# Altium schematic symbol library main 0603.SchLib: 72 symbols (part 1 of 2)
Pins are listed as number, name and electrical type; pins without a type are passive.

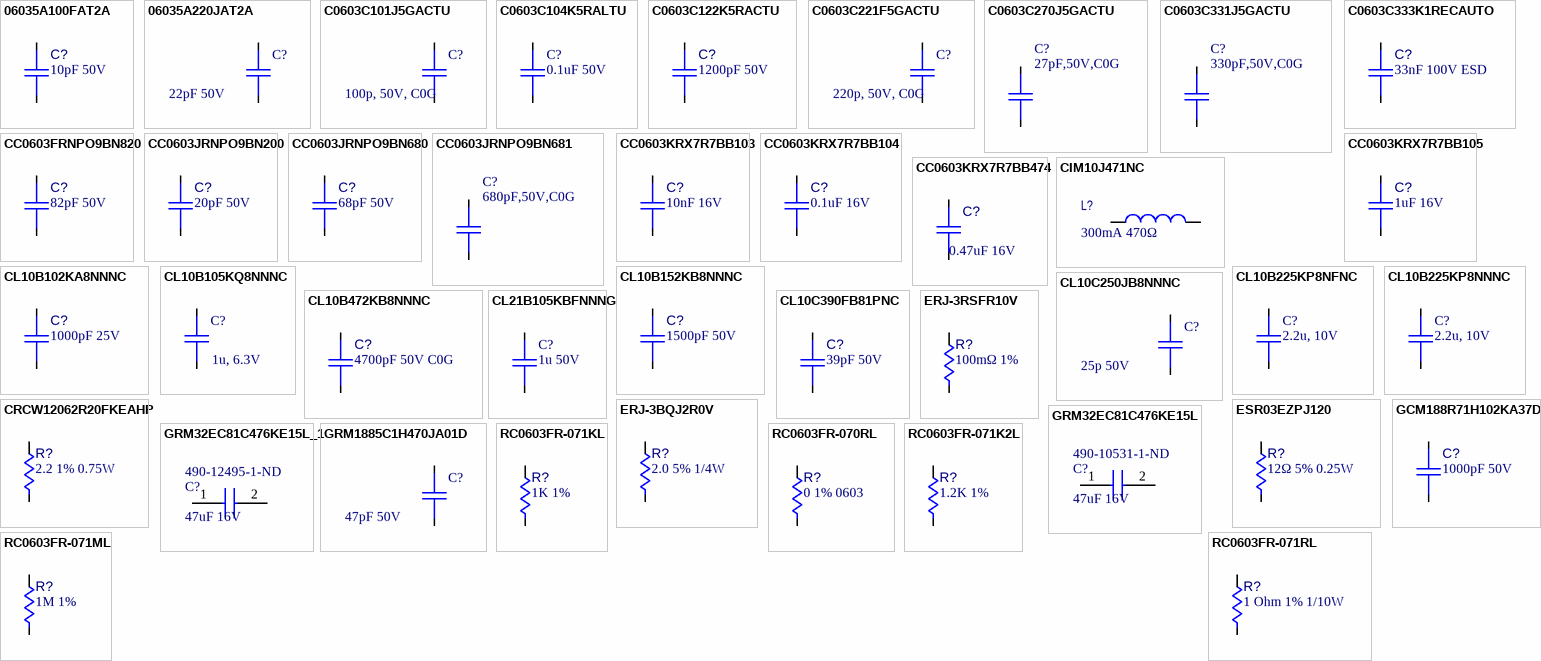
[diagram p0: symbols 06035A100FAT2A to RC0603FR-071RL]

## 06035A100FAT2A
designator C?, comment 10pF 50V
CAP CER 10PF 50V C0G/NP0 0603; Manufacturer: AVX; Manufacturer Part Number: 06035A100FAT2A; Tolerance: 1%; Temperature Coefficient: C0G; Supplier 1: Digi-Key; Category: Ceramic Capacitors; Stock 1: 366,260; Case/Package: 0603; Min Operating Temperature: -55°C; Max Operating Temperature: 125°C; Capacitance: 10pF; Voltage Rating (DC): 50V; Voltage Rating: 50V; Supplier Part Number 1: 478-10285-1-ND
footprint CAPC1608X09N (Chip Capacitor, 2-Leads, Body 1.60x0.80mm, IPC Medium Density)
pins: 1, 2

## 06035A220JAT2A
designator C?, comment 22pF 50V
CAP CER 22PF 50V C0G/NP0 0603; Manufacturer: AVX; Manufacturer Part Number: 06035A220JAT2A; Tolerance: 5%; Temperature Coefficient: C0G; Category: Ceramic Capacitors; Stock 1: 802526; Case/Package: 0603; Min Operating Temperature: -55°C; Max Operating Temperature: 125°C; Capacitance: 22pF; Voltage Rating: 50V; Load: *; Supplier 1: Digi-Key; Supplier Part Number 1: 478-1167-1-ND
footprint CAPC1608X09N (Chip Capacitor, 2-Leads, Body 1.60x0.80mm, IPC Medium Density)
pins: 1, 2

## C0603C101J5GACTU
designator C?, comment 100p, 50V, C0G
CAP CER 100PF 50V C0G/NP0 0603; Manufacturer: KEMET; Manufacturer Part Number: C0603C101J5GACTU; Dielectric Material: Ceramic; Tolerance: 5%; Case/Package: 0603; Min Operating Temperature: -55°C; Max Operating Temperature: 125°C; Capacitance: 100pF; Voltage Rating (DC): 50V; Temperature Coefficient: C0G; Voltage Rating: 50V; Height: 0.8mm; Lead Pitch: 0.7mm; ComponentLink1URL: https://datasheet.ciiva.com/5414/kem-c1003-c0g-smd-5414749.pdf; ComponentLink1Description: https://datasheet.ciiva.com/5414/kem-c1003-c0g-smd-5414749.pdf; Stock 1: 1,196,289; Supplier 1: Digi-Key; Supplier Part Number 1: 399-1061-1-ND
footprint CAPC1608X09N (Chip Capacitor, 2-Leads, Body 1.60x0.80mm, IPC Medium Density)
pins: 1, 2

## C0603C104K5RALTU
designator C?, comment 0.1uF 50V
CAP CER 0.1UF 50V X7R 0603; Manufacturer: KEMET; Manufacturer Part Number: C0603C104K5RALTU; Tolerance: 10%; Dielectric Material: Ceramic; Capacitance: 100nF; Dissipation Factor: 2.5%; Supplier 1: Digi-Key; Stock 1: 0; Pricing 1: 1=0.79, 10=0.584, 100=0.4002, 500=0.31682, 1000=0.2668 (USD); ComponentLink1URL: https://datasheet.ciiva.com/26847/getdatasheetpartid-103253-26847543.pdf; ComponentLink1Description: https://datasheet.ciiva.com/26847/getdatasheetpartid-103253-26847543.pdf; Supplier Part Number 1: 399-6353-6-ND; Case/Package: 0603; Min Operating Temperature: -55°C; Max Operating Temperature: 125°C; Temperature Coefficient: X7R; Voltage Rating: 50V; Height: 0.8mm
footprint CAPC1608X09N (Chip Capacitor, 2-Leads, Body 1.60x0.80mm, IPC Medium Density)
pins: 1, 2

## C0603C122K5RACTU
designator C?, comment 1200pF 50V
CAP CER 1200PF 50V X7R 0603; Manufacturer: KEMET; Manufacturer Part Number: C0603C122K5RACTU; Tolerance: 10%; Category: Ceramic Capacitors; Stock 1: 100,798; Pricing 1: 1=0.10000, 10=0.05000, 100=0.02240, 500=0.01602, 1000=0.01258 (USD); Case/Package: 0603; Min Operating Temperature: -55°C; Max Operating Temperature: 125°C; Temperature Coefficient: X7R; Capacitance: 1200pF; Voltage Rating: 50V; Height: 0.8mm; ComponentLink1URL: https://datasheet.ciiva.com/25741/cl10b102ka8nnnc-25741936.pdf?src-supplier=Digi-Key; ComponentLink1Description: https://datasheet.ciiva.com/25741/cl10b102ka8nnnc-25741936.pdf?src-supplier=Digi-Key; Supplier 1: Digi-Key; Supplier Part Number 1: 399-7851-1-ND
footprint CAPC1608X09N (Chip Capacitor, 2-Leads, Body 1.60x0.80mm, IPC Medium Density)
pins: 1, 2

## C0603C221F5GACTU
designator C?, comment 220p, 50V, C0G
CAP CER 220PF 50V C0G/NP0 0603; Manufacturer: KEMET; Manufacturer Part Number: C0603C221F5GACTU; Dielectric Material: Ceramic; Tolerance: 1%; Supplier 1: Digi-Key; Stock 1: 40000; Pricing 1: 1=0.3, 10=0.207, 100=0.1173, 500=0.0828, 1000=0.07245 (USD); Case/Package: 0603; Min Operating Temperature: -55°C; Max Operating Temperature: 125°C; Capacitance: 220pF; Temperature Coefficient: C0G; Voltage Rating: 50V; Height: 0.8mm; Lead Pitch: 0.7mm; ComponentLink1URL: https://datasheet.ciiva.com/5414/kem-c1003-c0g-smd-5414749.pdf; ComponentLink1Description: https://datasheet.ciiva.com/5414/kem-c1003-c0g-smd-5414749.pdf; Supplier Part Number 1: 399-7876-1-ND
footprint CAPC1608X09N (Chip Capacitor, 2-Leads, Body 1.60x0.80mm, IPC Medium Density)
pins: 1, 2

## C0603C270J5GACTU
designator C?, comment 27pF,50V,C0G
CAP CER 27PF 50V C0G/NP0 0603; Manufacturer: KEMET; Manufacturer Part Number: C0603C270J5GACTU; Tolerance: ±5%; Temperature Coefficient: C0G, NP0; Category: Capacitors; Stock 1: 287639; Pricing 1: 1=0.1, 10=0.052, 100=0.023, 500=0.0164, 1000=0.01289 (USD); Operating Temperature: -55°C ~ 125°C; Features: Low ESL; Applications: General Purpose; Mounting Type: Surface Mount, MLCC; ComponentLink1URL: https://search.kemet.com/component-edge/download/datasheet/C0603C331J5GACTU.pdf; ComponentLink1Description: https://search.kemet.com/component-edge/download/datasheet/C0603C331J5GACTU.pdf; Supplier 1: Digi-Key; Supplier Part Number 1: 399-1054-1-ND; Capactiance: 27pF
footprint CAPC1608X09N (Chip Capacitor, 2-Leads, Body 1.60x0.80mm, IPC Medium Density)
pins: 1, 2

## C0603C331J5GACTU
designator C?, comment 330pF,50V,C0G
CAP CER 330PF 50V C0G/NP0 0603; Manufacturer: KEMET; Manufacturer Part Number: C0603C331J5GACTU; Tolerance: ±5%; Temperature Coefficient: C0G, NP0; Supplier 1: Digi-Key; Category: Capacitors; Stock 1: 121808; Pricing 1: 1=0.1, 10=0.052, 100=0.023, 500=0.0164, 1000=0.01289 (USD); Voltage Rating: 50V; Operating Temperature: -55°C ~ 125°C; Features: Low ESL; Applications: General Purpose; Mounting Type: Surface Mount, MLCC; ComponentLink1URL: https://search.kemet.com/component-edge/download/datasheet/C0603C331J5GACTU.pdf; ComponentLink1Description: https://search.kemet.com/component-edge/download/datasheet/C0603C331J5GACTU.pdf; Supplier Part Number 1: 399-1068-1-ND; Capacitance: 330pF
footprint CAPC1608X09N (Chip Capacitor, 2-Leads, Body 1.60x0.80mm, IPC Medium Density)
pins: 1, 2

## C0603C333K1RECAUTO
designator C?, comment 33nF 100V ESD
CAP CER 0.033UF 100V X7R 0603; Manufacturer: KEMET; Manufacturer Part Number: C0603C333K1RECAUTO; Tolerance: 10%; Stock 1: 6410; Pricing 1: 1=0.25, 10=0.169, 100=0.0857, 500=0.0586, 1000=0.05184 (USD); Case/Package: 0603; Min Operating Temperature: -55°C; Max Operating Temperature: 125°C; Capacitance: 33nF; Voltage Rating: 100V; ComponentLink1URL: https://api.kemet.com/component-edge/download/datasheet/C0603C333K1RECAUTO.pdf?src-supplier=Digi-Key; ComponentLink1Description: https://api.kemet.com/component-edge/download/datasheet/C0603C333K1RECAUTO.pdf?src-supplier=Digi-Key; Supplier 1: Digi-Key; Supplier Part Number 1: 399-14762-1-ND; Temperature Coefficient: X7R
footprint CAPC1608X09N (Chip Capacitor, 2-Leads, Body 1.60x0.80mm, IPC Medium Density)
pins: 1, 2

## CC0603FRNPO9BN820
designator C?, comment 82pF 50V
CAP CER 82PF 50V C0G/NPO 0603; Manufacturer: Yageo; Manufacturer Part Number: CC0603FRNPO9BN820; Tolerance: 1%; Temperature Coefficient: C0G; Category: Ceramic Capacitors; Stock 1: 35,490; Case/Package: 0603; Min Operating Temperature: -55°C; Max Operating Temperature: 125°C; Capacitance: 82pF; Voltage Rating: 50V; Supplier 1: Digi-Key; Supplier Part Number 1: 311-3906-1-ND; Load: *
footprint CAPC1608X09N (Chip Capacitor, 2-Leads, Body 1.60x0.80mm, IPC Medium Density)
pins: 1, 2

## CC0603JRNPO9BN200
designator C?, comment 20pF 50V
CAP CER 20PF 50V C0G/NPO 0603; Manufacturer: Yageo; Manufacturer Part Number: CC0603JRNPO9BN200; Tolerance: 5%; Temperature Coefficient: C0G; Supplier 1: Digi-Key; Category: Ceramic Capacitors; Stock 1: 67638; Pricing 1: 1=0.10000, 10=0.05100, 100=0.02260, 500=0.01614, 1000=0.01267 (USD); Case/Package: 0603; Min Operating Temperature: -55°C; Max Operating Temperature: 125°C; Capacitance: 20pF; Voltage Rating (DC): 50V; Voltage Rating: 50V; ComponentLink1URL: https://datasheet.ciiva.com/7978/1132289-7978134.pdf?src-supplier=Element14; ComponentLink1Description: https://datasheet.ciiva.com/7978/1132289-7978134.pdf?src-supplier=Element14; Supplier Part Number 1: 311-1424-1-ND
footprint CAPC1608X09N (Chip Capacitor, 2-Leads, Body 1.60x0.80mm, IPC Medium Density)
pins: 1, 2

## CC0603JRNPO9BN680
designator C?, comment 68pF 50V
CAP CER 68PF 50V C0G/NPO 0603; Manufacturer: Yageo; Manufacturer Part Number: CC0603JRNPO9BN680; Tolerance: +/-5%; Temperature Coefficient: C0G; Category: Ceramic Capacitors; Stock 1: 219,557; Case/Package: 0603; Min Operating Temperature: -55°C; Max Operating Temperature: 125°C; Capacitance: 68pF; Voltage Rating: 50V; Load: *; Supplier 1: Digi-Key; Supplier Part Number 1: 311-1067-1-ND
footprint CAPC1608X09N (Chip Capacitor, 2-Leads, Body 1.60x0.80mm, IPC Medium Density)
pins: 1, 2

## CC0603JRNPO9BN681
designator C?, comment 680pF,50V,C0G
CAP CER 680PF 50V C0G/NPO 0603; Manufacturer: Yageo; Manufacturer Part Number: CC0603JRNPO9BN681; Tolerance: ±5%; Temperature Coefficient: C0G, NP0; Category: Capacitors; Stock 1: 173577; Pricing 1: 1=0.1, 10=0.052, 100=0.023, 500=0.0164, 1000=0.01289 (USD); Voltage Rating: 50V; Operating Temperature: -55°C ~ 125°C; Features: Low ESL; Applications: General Purpose; Mounting Type: Surface Mount, MLCC; ComponentLink1URL: https://search.kemet.com/component-edge/download/datasheet/C0603C331J5GACTU.pdf; ComponentLink1Description: https://search.kemet.com/component-edge/download/datasheet/C0603C331J5GACTU.pdf; Supplier 1: Digi-Key; Supplier Part Number 1: 311-1425-1-ND; Capacitance: 680pF
footprint CAPC1608X09N (Chip Capacitor, 2-Leads, Body 1.60x0.80mm, IPC Medium Density)
pins: 1, 2

## CC0603KRX7R7BB103
designator C?, comment 10nF 16V
CAP CER 10000PF 16V X7R 0603; Manufacturer: Yageo; Manufacturer Part Number: CC0603KRX7R7BB103; Tolerance: ±10%; Category: Capacitors; Stock 1: 155785; Pricing 1: 1=0.1, 10=0.031, 100=0.0136, 500=0.00974, 1000=0.00765 (USD); Voltage Rating: 16V; Temperature Coefficient: X7R; Operating Temperature: -55°C ~ 125°C; Features: -; Applications: General Purpose; Mounting Type: Surface Mount, MLCC; ComponentLink1URL: http://www.yageo.com/documents/recent/UPY-GPHC_X7R_6.3V-to-50V_18.pdf; ComponentLink1Description: http://www.yageo.com/documents/recent/UPY-GPHC_X7R_6.3V-to-50V_18.pdf; Supplier 1: Digi-Key; Supplier Part Number 1: 311-3369-1-ND; Capacitance: 10000pF
footprint CAPC1608X09N (Chip Capacitor, 2-Leads, Body 1.60x0.80mm, IPC Medium Density)
pins: 1, 2

## CC0603KRX7R7BB104
designator C?, comment 0.1uF 16V
CAP CER 0.1UF 16V X7R 0603; Manufacturer: Yageo; Manufacturer Part Number: CC0603KRX7R7BB104; Tolerance: ±10%; Capacitance: 100nF; Supplier 1: Digi-Key; Category: Capacitors; Stock 1: 1733046; Pricing 1: 1=0.1, 10=0.021, 100=0.0095, 500=0.00676, 1000=0.00531 (USD); Temperature Coefficient: X7R; Operating Temperature: -55°C ~ 125°C; Features: -; Applications: General Purpose; Mounting Type: Surface Mount, MLCC; ComponentLink1URL: http://www.yageo.com/documents/recent/UPY-GPHC_X7R_6.3V-to-50V_18.pdf; ComponentLink1Description: http://www.yageo.com/documents/recent/UPY-GPHC_X7R_6.3V-to-50V_18.pdf; Supplier Part Number 1: 311-1088-1-ND
footprint CAPC1608X09N (Chip Capacitor, 2-Leads, Body 1.60x0.80mm, IPC Medium Density)
pins: 1, 2

## CC0603KRX7R7BB105
designator C?, comment 1uF 16V
CAP CER 1UF 16V X7R 0603; Manufacturer: Yageo; Manufacturer Part Number: CC0603KRX7R7BB105; Tolerance: 10%; Capacitance: 1µF; Stock 1: 165888; Case/Package: 0603; Min Operating Temperature: -55°C; Max Operating Temperature: 125°C; Voltage Rating: 16V; Temperature Coefficient: X7R; Height: 0.8mm; Supplier 1: Digi-Key; Supplier Part Number 1: 311-1446-1-ND
footprint CAPC1608X09N (Chip Capacitor, 2-Leads, Body 1.60x0.80mm, IPC Medium Density)
pins: 1, 2

## CC0603KRX7R7BB474
designator C?, comment 0.47uF 16V
CAP CER 0.47UF 16V X7R 0603; Manufacturer: Yageo; Manufacturer Part Number: CC0603KRX7R7BB474; Tolerance: ±10%; Supplier 1: Digi-Key; Category: Capacitors; Stock 1: 31140; Pricing 1: 1=0.11, 10=0.081, 100=0.0379, 500=0.02656, 1000=0.02198 (USD); Temperature Coefficient: X7R; Operating Temperature: -55°C ~ 125°C; Features: -; Applications: General Purpose; Mounting Type: Surface Mount, MLCC; ComponentLink1URL: http://www.yageo.com/documents/recent/UPY-GPHC_X7R_6.3V-to-50V_18.pdf; ComponentLink1Description: http://www.yageo.com/documents/recent/UPY-GPHC_X7R_6.3V-to-50V_18.pdf; Supplier Part Number 1: 311-1428-1-ND; Capacitance: 0.47uF
footprint CAPC1608X09N (Chip Capacitor, 2-Leads, Body 1.60x0.80mm, IPC Medium Density)
pins: 1, 2

## CIM10J471NC
designator L?, comment 300mA 470Ω
BEAD 300mA 470Ω 0603; Manufacturer: Samsung Electro-Mechanics; Manufacturer Part Number: CIM10J471NC; Impedance @ Frequency: 470 Ohm @ 100MHz; DC Resistance (DCR) (Max): 350 mOhm; Supplier 1: Digi-Key; Supplier Part Number 1: 1276-6380-1-ND; Category: Filters; Stock 1: 6226; Pricing 1: 1=0.1, 10=0.028, 25=0.0248, 50=0.0226, 100=0.0204, 250=0.01496, 500=0.01088, 1000=0.01065 (USD); Current Rating (Max): 300mA; Operating Temperature: -55°C ~ 125°C; Mounting Type: Surface Mount; Height (Max): 0.037" (0.95mm); ComponentLink1URL: http://www.samsungsem.com/kr/support/library/product-catalog/__icsFiles/afieldfile/2014/11/13/Chip_Bead.pdf; ComponentLink1Description: http://www.samsungsem.com/kr/support/library/product-catalog/__icsFiles/afieldfile/2014/11/13/Chip_Bead.pdf
footprint INDC1608X09N (Footprint not found)
pins: 1, 2

## CL10B102KA8NNNC
designator C?, comment 1000pF 25V
CAP CER 1000PF 25V X7R 0603; Manufacturer: Samsung; Manufacturer Part Number: CL10B102KA8NNNC; Tolerance: 10%; Supplier 1: Digi-Key; Category: Ceramic Capacitors; Stock 1: 1909967; Pricing 1: 1=0.10000, 10=0.05000, 100=0.02240, 500=0.01602, 1000=0.01258 (USD); Case/Package: 0603; Min Operating Temperature: -55°C; Max Operating Temperature: 125°C; Temperature Coefficient: X7R; Capacitance: 1000pF; Voltage Rating: 25V; Height: 0.8mm; ComponentLink1URL: https://datasheet.ciiva.com/25741/cl10b102ka8nnnc-25741936.pdf?src-supplier=Digi-Key; ComponentLink1Description: https://datasheet.ciiva.com/25741/cl10b102ka8nnnc-25741936.pdf?src-supplier=Digi-Key; Supplier Part Number 1: 1276-1195-1-ND
footprint CAPC1608X09N (Chip Capacitor, 2-Leads, Body 1.60x0.80mm, IPC Medium Density)
pins: 1, 2

## CL10B105KQ8NNNC
designator C?, comment 1u, 6.3V
CAP CER 1UF 6.3V X7R 0603; Manufacturer: Samsung; Manufacturer Part Number: CL10B105KQ8NNNC; Tolerance: 10%; Supplier 1: Digi-Key; Stock 1: 1839; Pricing 1: 1=0.1, 10=0.047, 100=0.0208, 500=0.01488, 1000=0.01169 (USD); Case/Package: 0603; Min Operating Temperature: -55°C; Max Operating Temperature: 125°C; Capacitance: 1uF; Temperature Coefficient: X7R; Voltage Rating: 6.3V; Height: 0.8mm; ComponentLink1URL: https://datasheet.ciiva.com/15195/getdatasheetpartid-355328-15195730.pdf; ComponentLink1Description: https://datasheet.ciiva.com/15195/getdatasheetpartid-355328-15195730.pdf; Supplier Part Number 1: 1276-1024-1-ND
footprint CAPC1608X09N (Chip Capacitor, 2-Leads, Body 1.60x0.80mm, IPC Medium Density)
pins: 1, 2

## CL10B152KB8NNNC
designator C?, comment 1500pF 50V
CAP CER 1500PF 50V X7R 0603; Manufacturer: Samsung; Manufacturer Part Number: CL10B152KB8NNNC; Tolerance: 10%; Category: Ceramic Capacitors; Stock 1: 272000; Pricing 1: 1=0.10000, 10=0.05000, 100=0.02240, 500=0.01602, 1000=0.01258 (USD); Case/Package: 0603; Min Operating Temperature: -55°C; Max Operating Temperature: 125°C; Temperature Coefficient: X7R; Capacitance: 1500pF; Voltage Rating: 50V; Height: 0.8mm; ComponentLink1URL: https://datasheet.ciiva.com/25741/cl10b102ka8nnnc-25741936.pdf?src-supplier=Digi-Key; ComponentLink1Description: https://datasheet.ciiva.com/25741/cl10b102ka8nnnc-25741936.pdf?src-supplier=Digi-Key; Supplier 1: Digi-Key; Supplier Part Number 1: 311-1184-1-ND
footprint CAPC1608X09N (Chip Capacitor, 2-Leads, Body 1.60x0.80mm, IPC Medium Density)
pins: 1, 2

## CL10B225KP8NFNC
designator C?, comment 2.2u, 10V
CAP CER 2.2UF 10V X7R 0603; Manufacturer: Samsung; Manufacturer Part Number: CL10B225KP8NFNC; Tolerance: 10%; Stock 1: 68723; Pricing 1: 1=0.19, 10=0.133, 100=0.0625, 500=0.04384, 1000=0.0363 (USD); Case/Package: 0603; Min Operating Temperature: -55°C; Max Operating Temperature: 125°C; Capacitance: 2.2uF; Temperature Coefficient: X7R; Voltage Rating: 10V; Height: 0.8mm; Supplier 1: Digi-Key; Supplier Part Number 1: 1276-2016-1-ND
footprint CAPC1608X09N (Chip Capacitor, 2-Leads, Body 1.60x0.80mm, IPC Medium Density)
pins: 1, 2

## CL10B225KP8NNNC
designator C?, comment 2.2u, 10V
CAP CER 2.2UF 10V X7R 0603; Manufacturer: Samsung; Manufacturer Part Number: CL10B225KP8NNNC; Tolerance: 10%; Stock 1: 607; Pricing 1: 1=0.19, 10=0.133, 100=0.0625, 500=0.04384, 1000=0.0363 (USD); Case/Package: 0603; Min Operating Temperature: -55°C; Max Operating Temperature: 125°C; Capacitance: 2.2uF; Temperature Coefficient: X7R; Voltage Rating: 10V; Height: 0.8mm; Supplier 1: Digi-Key; Supplier 2: Newark; Supplier Part Number 2: 82AC9352; Supplier Part Number 1: 1276-1134-1-ND
footprint CAPC1608X09N (Chip Capacitor, 2-Leads, Body 1.60x0.80mm, IPC Medium Density)
pins: 1, 2

## CL10B472KB8NNNC
designator C?, comment 4700pF 50V C0G
CAP CER 4700PF 50V X7R 0603; Manufacturer: Samsung; Manufacturer Part Number: CL10B472KB8NNNC; Capacitance: 4.7nF; Tolerance: +/-10%; Supplier 1: Digi-Key; Category: Ceramic Capacitors; Stock 1: 1879774; Pricing 1: 1=0.10000, 10=0.03800, 100=0.01710, 500=0.01220, 1000=0.00959 (USD); Case/Package: 0603; Min Operating Temperature: -55°C; Max Operating Temperature: 125°C; Temperature Coefficient: C0G; Voltage Rating: 50V; Height: 0.8mm; ComponentLink1URL: https://datasheet.ciiva.com/25709/cl10b472kb8nnnc-25709729.pdf?src-supplier=Digi-Key; ComponentLink1Description: https://datasheet.ciiva.com/25709/cl10b472kb8nnnc-25709729.pdf?src-supplier=Digi-Key; Supplier Part Number 1: 1276-1098-1-ND
footprint CAPC1608X09N (Chip Capacitor, 2-Leads, Body 1.60x0.80mm, IPC Medium Density)
pins: 1, 2

## CL10C250JB8NNNC
designator C?, comment 25p 50V
CAP CER 25PF 50V C0G/NP0 0603; Manufacturer: Samsung; Manufacturer Part Number: CL10C250JB8NNNC; Tolerance: 5%; Temperature Coefficient: C0G; Supplier 1: Digi-Key; Category: Ceramic Capacitors; Stock 1: 184474; Pricing 1: 1=0.10000, 10=0.05600, 100=0.02480, 500=0.01772, 1000=0.01392 (USD); Case/Package: 0603; Min Operating Temperature: -55°C; Max Operating Temperature: 125°C; Capacitance: 25pF; Voltage Rating: 50V; Height: 0.8mm; ComponentLink1URL: https://datasheet.ciiva.com/25769/cl10c250jb8nnnc-25769377.pdf?src-supplier=Digi-Key; ComponentLink1Description: https://datasheet.ciiva.com/25769/cl10c250jb8nnnc-25769377.pdf?src-supplier=Digi-Key; Supplier Part Number 1: 1276-2244-1-ND
footprint CAPC1608X09N (Chip Capacitor, 2-Leads, Body 1.60x0.80mm, IPC Medium Density)
pins: 1, 2

## CL10C390FB81PNC
designator C?, comment 39pF 50V
CAP CER 39PF 50V C0G/NP0 0603; Manufacturer: Samsung; Manufacturer Part Number: CL10C390FB81PNC; Tolerance: 1%; Temperature Coefficient: C0G; Supplier 1: Digi-Key; Category: Ceramic Capacitors; Stock 1: 388,190; Case/Package: 0603; Min Operating Temperature: -55°C; Max Operating Temperature: 125°C; Capacitance: 39pF; Voltage Rating (DC): 50V; Voltage Rating: 50V; Supplier Part Number 1: 1276-2280-1-ND
footprint CAPC1608X09N (Chip Capacitor, 2-Leads, Body 1.60x0.80mm, IPC Medium Density)
pins: 1, 2

## CL21B105KBFNNNG
designator C?, comment 1u 50V
CAP CER 1UF 50V X7R 0805; Manufacturer: Samsung; Manufacturer Part Number: CL21B105KBFNNNG; Tolerance: 10%; Supplier 1: Digi-Key; Category: Ceramic Capacitors; Stock 1: 1303370; Pricing 1: 1=0.14000, 10=0.09800, 100=0.04590, 500=0.03218, 1000=0.02664 (USD); Case/Package: 0805; Min Operating Temperature: -55°C; Max Operating Temperature: 125°C; Capacitance: 1uF; Voltage Rating: 50V; Temperature Coefficient: X7R; ComponentLink1URL: https://datasheet.ciiva.com/25733/cl21b105kbfnnng-25733278.pdf?src-supplier=Digi-Key; ComponentLink1Description: https://datasheet.ciiva.com/25733/cl21b105kbfnnng-25733278.pdf?src-supplier=Digi-Key; Supplier Part Number 1: 1276-6470-6-ND
footprint CAPC2012X14N (Chip Capacitor, 2-Leads, Body 2.00x1.25mm, IPC Medium Density)
pins: 1, 2

## CRCW12062R20FKEAHP
designator R?, comment 2.2 1% 0.75W
RES SMD 2.2 OHM 1% 3/4W 1206; Manufacturer: Vishay Dale; Manufacturer Part Number: CRCW12062R20FKEAHP; Resistance: 2.2R; Temperature Coefficient: 100ppm/°C; Voltage Rating (DC): 200V; Power Rating: 500mW; Supplier 1: Digi-Key; Category: Chip SMD Resistors; Stock 1: 5000; Pricing 1: 1=0.43000, 10=0.32600, 100=0.13720, 1000=0.07568, 2500=0.07095 (USD); Case/Package: 1206; Min Operating Temperature: -55°C; Max Operating Temperature: 155°C; Tolerance: 1%; Voltage Rating: 200V; Height: 0.5mm; ComponentLink1URL: https://datasheet.ciiva.com/8896/crcwhpe3-8896987.pdf?src-supplier=Avnet; ComponentLink1Description: https://datasheet.ciiva.com/8896/crcwhpe3-8896987.pdf?src-supplier=Avnet; Supplier Part Number 1: 541-CRCW12062R20FKEAHPCT-ND
footprint RESC3116X65X50NL20T20 (Chip Resistor, 2-Leads, Body 3.10x1.60mm, IPC Medium Density)
pins: 1, 2

## ERJ-3BQJ2R0V
designator R?, comment 2.0 5% 1/4W
RES SMD 2 OHM 5% 1/4W 0603; Manufacturer: Panasonic; Manufacturer Part Number: ERJ-3BQJ2R0V; Resistance: 2R; Max Power Dissipation: 250mW; Temperature Coefficient: 200ppm/°C; Supplier 1: Digi-Key; Supplier Part Number 1: P17414DKR-ND; Stock 1: 17619; Pricing 1: 1=0.3, 10=0.25, 100=0.0977, 1000=0.04088, 2500=0.03748 (USD); Case/Package: 0603; Min Operating Temperature: -55°C; Max Operating Temperature: 125°C; Number of Terminations: 2; Tolerance: 5%; Height: 0.022inch; ComponentLink1URL: http://www.mouser.com/ds/2/315/AOA0000C295-1109214.pdf; ComponentLink1Description: http://www.mouser.com/ds/2/315/AOA0000C295-1109214.pdf
footprint RESC1608X06N (Chip Resistor, 2-Leads, Body 1.60x0.80mm, IPC Medium Density)
pins: 1, 2

## ERJ-3RSFR10V
designator R?, comment 100mΩ 1%
RES 0.1 OHM 1% 1/10W 0603; Manufacturer: Panasonic; Manufacturer Part Number: ERJ-3RSFR10V; Temperature Coefficient: 300ppm/°C; Category: Chip SMD Resistors; Case/Package: 0603; Min Operating Temperature: -55°C; Max Operating Temperature: 155°C; Resistance: 100mΩ; Tolerance: 1%; ComponentLink1URL: https://www.seielect.com/catalog/sei-rmcf_rmcp.pdf?src-supplier=Digi-Key; ComponentLink1Description: https://www.seielect.com/catalog/sei-rmcf_rmcp.pdf?src-supplier=Digi-Key; Supplier 1: Future Electronics; Supplier Part Number 1: 5103905; Supplier 2: Digi-Key; Supplier Part Number 2: P17327CT-ND
footprint RESC1608X06N (Chip Resistor, 2-Leads, Body 1.60x0.80mm, IPC Medium Density)
pins: 1, 2

## ESR03EZPJ120
designator R?, comment 12Ω 5% 0.25W
RES SMD 12 OHM 5% 1/4W 0603; Manufacturer: Rohm; Manufacturer Part Number: ESR03EZPJ120; Power (Watts): 0.25W, 1/4W; Temperature Coefficient: ±200ppm/°C; Resistance: 12ohm; Category: Resistors; Tolerance: ±5%; Features: Automotive AEC-Q200, Pulse Withstanding; Operating Temperature: -55°C ~ 155°C; Supplier 1: Digi-Key; Supplier Part Number 1: RHM12DCT-ND
footprint RESC1608X06N (Chip Resistor, 2-Leads, Body 1.60x0.80mm, IPC Medium Density)
pins: 1, 2

## GCM188R71H102KA37D
designator C?, comment 1000pF 50V
CAP CER 1000PF 50V X7R 0603; Manufacturer: Murata; Manufacturer Part Number: GCM188R71H102KA37D; Tolerance: 10%; Category: Ceramic Capacitors; Stock 1: 7548353; Pricing 1: 1=0.10000, 10=0.05000, 100=0.02240, 500=0.01602, 1000=0.01258 (USD); Case/Package: 0603; Min Operating Temperature: -55°C; Max Operating Temperature: 125°C; Temperature Coefficient: X7R; Capacitance: 1000pF; Voltage Rating: 50V; Height: 0.8mm; ComponentLink1URL: https://datasheet.ciiva.com/25741/cl10b102ka8nnnc-25741936.pdf?src-supplier=Digi-Key; ComponentLink1Description: https://datasheet.ciiva.com/25741/cl10b102ka8nnnc-25741936.pdf?src-supplier=Digi-Key; Supplier 1: Digi-Key; Supplier Part Number 1: 490-4777-1-ND
footprint CAPC1608X09N (Chip Capacitor, 2-Leads, Body 1.60x0.80mm, IPC Medium Density)
pins: 1, 2

## GRM32EC81C476KE15L
designator C?, comment 47uF 16V  Supplier Part Number 1: 490-10531-1-ND
CAP CER 47UF 16V X6S 1210; Manufacturer_Name: TDK; Manufacturer_Part_Number: GRM32EC81C476KE15L; Datasheet Link: https://search.murata.co.jp/Ceramy/image/img/A01X/G101/ENG/GRM32EC81C476KE15-01.pdf; Height: 2.8mm; Mouser Part Number: 81-GRM32EC81C476KE5L; Mouser Price/Stock: https://www.mouser.com/ProductDetail/Murata/GRM32EC81C476KE15L?qs=sGAEpiMZZMtXHE36kCvv33S6FxxxMfMjoBSJr7MM4k0%3D; Supplier 1: Digi-Key
footprint CAPC3225X280N
pins: 1, 2

## GRM32EC81C476KE15L_1
designator C?, comment 47uF 16V  Supplier Part Number 1: 490-12495-1-ND
CAP CER 47UF 16V X6S 1210; Manufacturer_Name: TDK; Manufacturer_Part_Number: CGA6P3X7R1H335K250AB; Datasheet Link: https://componentsearchengine.com/Datasheets/2/CGA6P3X7R1H335K250AB.pdf; Height: 2.8mm; Mouser Part Number: 810-CGA6P3X7R1H335K; Mouser Price/Stock: https://www.mouser.com/Search/Refine.aspx?Keyword=810-CGA6P3X7R1H335K; Arrow Part Number: CGA6P3X7R1H335K250AB; Arrow Price/Stock: https://www.arrow.com/en/products/cga6p3x7r1h335k250ab/tdk; Supplier 1: Digi-Key
footprint CAPC3225X280N
pins: 1, 2

## GRM1885C1H470JA01D
designator C?, comment 47pF 50V
CAP CER 47PF 50V C0G/NP0 0603; Manufacturer: Murata; Manufacturer Part Number: GRM1885C1H470JA01D; Tolerance: 5%; Temperature Coefficient: C0G; Category: Ceramic Capacitors; Stock 1: 513531; Case/Package: 0603; Min Operating Temperature: -55°C; Max Operating Temperature: 125°C; Capacitance: 47pF; Voltage Rating: 50V; Height: 0.8mm; Supplier 1: Digi-Key; Supplier Part Number 1: 490-1419-1-ND; Load: *
footprint CAPC1608X09N (Chip Capacitor, 2-Leads, Body 1.60x0.80mm, IPC Medium Density)
pins: 1, 2

## RC0603FR-070RL
designator R?, comment 0 1% 0603
RES 0 JUMPER 1/10W 0603; Manufacturer: Yageo; Manufacturer Part Number: RC0603FR-070RL; Power (Watts): 0.1W, 1/10W; Category: Resistors; Stock 1: 978054; Pricing 1: 1=0.1, 10=0.013, 25=0.0092, 50=0.007, 100=0.0052, 250=0.00396, 500=0.00316, 1000=0.00233 (USD); Tolerance: Jumper; Features: Moisture Resistant; Temperature Coefficient: -; Operating Temperature: -55°C ~ 155°C; ComponentLink1URL: http://www.yageo.com/documents/recent/PYu-RC_Group_51_RoHS_L_7.pdf; ComponentLink1Description: http://www.yageo.com/documents/recent/PYu-RC_Group_51_RoHS_L_7.pdf; Supplier 1: Newark; Supplier Part Number 1: 50Y7761
footprint RESC1608X06N (Chip Resistor, 2-Leads, Body 1.60x0.80mm, IPC Medium Density)
pins: 1, 2

## RC0603FR-071K2L
designator R?, comment 1.2K 1%
RES SMD 1.2K OHM 1% 1/10W 0603; Manufacturer: Yageo; Manufacturer Part Number: RC0603FR-071K2L; Temperature Coefficient: 100ppm/°C; Power Rating: 100mW; Voltage Rating (DC): 50V; Resistance: 1.2kR; Supplier 1: Digi-Key; Category: Chip SMD Resistors; Pricing 1: 1=0.10000, 10=0.02300, 100=0.00940, 1000=0.00421, 2500=0.00366 (USD); Case/Package: 0603; Min Operating Temperature: -55°C; Max Operating Temperature: 155°C; Tolerance: 1%; Voltage Rating: 50V; Height: 0.45mm; ComponentLink1URL: http://www.farnell.com/datasheets/2167052.pdf?src-supplier=Farnell; ComponentLink1Description: http://www.farnell.com/datasheets/2167052.pdf?src-supplier=Farnell; Supplier Part Number 1: 311-1.20KHRCT-ND
footprint RESC1608X06N (Chip Resistor, 2-Leads, Body 1.60x0.80mm, IPC Medium Density)
pins: 1, 2

## RC0603FR-071KL
designator R?, comment 1K 1%
RES SMD 1K OHM 1% 1/10W 0603; Manufacturer: Yageo; Manufacturer Part Number: RC0603FR-071KL; Power (Watts): 0.1W, 1/10W; Temperature Coefficient: ±100ppm/°C; Resistance: 1kohm; Category: Resistors; Pricing 1: 1=0.1, 10=0.015, 100=0.006, 1000=0.00268, 2500=0.00233 (USD); Tolerance: ±1%; Features: Moisture Resistant; Operating Temperature: -55°C ~ 155°C; Stock 1: 28,390,477; Supplier 1: Digi-Key; Supplier Part Number 1: 311-1.00KHRCT-ND
footprint RESC1608X06N (Chip Resistor, 2-Leads, Body 1.60x0.80mm, IPC Medium Density)
pins: 1, 2

## RC0603FR-071ML
designator R?, comment 1M 1%
RES SMD 1M OHM 1% 1/10W 0603; Manufacturer: Yageo; Manufacturer Part Number: RC0603FR-071ML; Power (Watts): 0.1W, 1/10W; Temperature Coefficient: ±100ppm/°C; Resistance: 1Meg ohm; Supplier 1: Digi-Key; Category: Resistors; Stock 1: 3013629; Pricing 1: 1=0.1, 10=0.015, 100=0.006, 1000=0.00268, 2500=0.00233 (USD); Tolerance: ±1%; Features: Moisture Resistant; Operating Temperature: -55°C ~ 155°C; ComponentLink1URL: http://www.yageo.com/documents/recent/PYu-RC_Group_51_RoHS_L_7.pdf; ComponentLink1Description: http://www.yageo.com/documents/recent/PYu-RC_Group_51_RoHS_L_7.pdf; Supplier Part Number 1: 311-1.00MHRCT-ND
footprint RESC1608X06N (Chip Resistor, 2-Leads, Body 1.60x0.80mm, IPC Medium Density)
pins: 1, 2

## RC0603FR-071RL
designator R?, comment 1 Ohm 1% 1/10W
RES SMD 1 OHM 1% 1/10W 0603; Manufacturer: Yageo; Manufacturer Part Number: RC0603FR-071RL; Resistance: 1R; Max Power Dissipation: 100mW; Temperature Coefficient: 200ppm/°C; Min Operating Temperature: -55°C; Max Operating Temperature: 125°C; Number of Terminations: 2; Tolerance: 1%; ComponentLink1URL: http://www.mouser.com/ds/2/315/AOA0000C295-1109214.pdf; ComponentLink1Description: http://www.mouser.com/ds/2/315/AOA0000C295-1109214.pdf; Supplier 1: Digi-Key; Supplier Part Number 1: 311-1.00HRCT-ND
footprint RESC1608X06N (Chip Resistor, 2-Leads, Body 1.60x0.80mm, IPC Medium Density)
pins: 1, 2

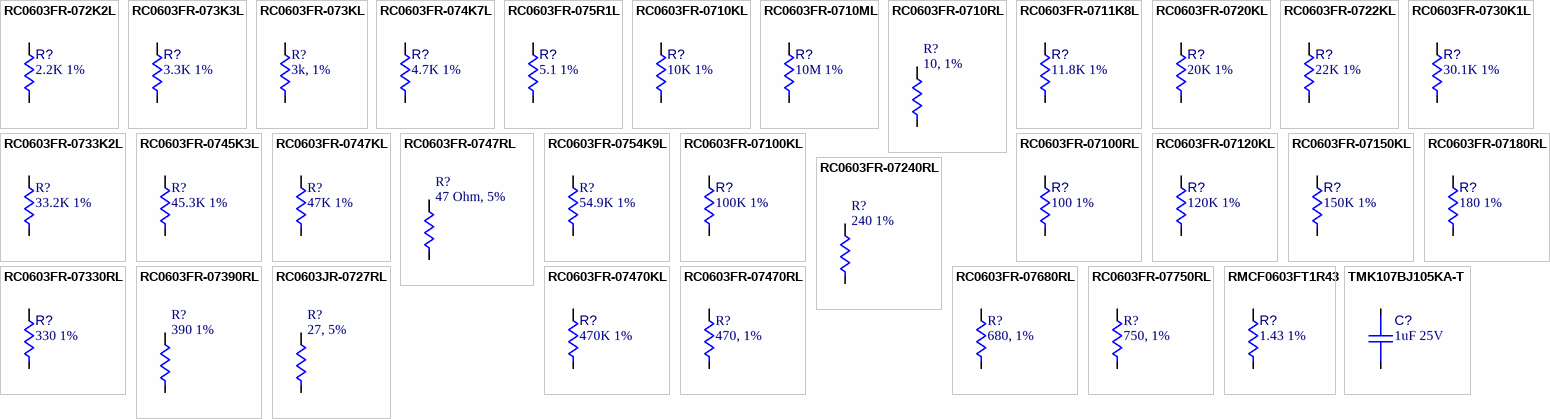
[diagram p1: symbols RC0603FR-072K2L to TMK107BJ105KA-T]

## RC0603FR-072K2L
designator R?, comment 2.2K 1%
RES SMD 2.2K OHM 1% 1/10W 0603; Manufacturer: Yageo; Manufacturer Part Number: RC0603FR-072K2L; Resistance: 2.2kR; Temperature Coefficient: 100ppm/°C; Power Rating: 100mW; Voltage Rating: 50V; ComponentLink1URL: http://www.yageo.com/documents/recent/PYu-RC_Group_51_RoHS_L_7.pdf; ComponentLink1Description: http://www.yageo.com/documents/recent/PYu-RC_Group_51_RoHS_L_7.pdf; Supplier 1: Digi-Key; Supplier Part Number 1: 311-2.20KHRCT-ND; Stock 1: 7114; Pricing 1: 1=0.1, 10=0.015, 100=0.006, 1000=0.00268, 2500=0.00233 (USD); Case/Package: 0603; Min Operating Temperature: -55°C; Max Operating Temperature: 155°C; Tolerance: 1%; Number of Terminations: 2; Max Power Dissipation: 100mW; Height: 0.022inch
footprint RESC1608X06N (Chip Resistor, 2-Leads, Body 1.60x0.80mm, IPC Medium Density)
pins: 1, 2

## RC0603FR-073K3L
designator R?, comment 3.3K 1%
RES SMD 3.3K OHM 1% 1/10W 0603; Manufacturer: Yageo; Manufacturer Part Number: RC0603FR-073K3L; Power (Watts): 0.1W, 1/10W; Temperature Coefficient: ±100ppm/°C; Category: Resistors; Tolerance: ±1%; Features: Moisture Resistant; Operating Temperature: -55°C ~ 155°C; Stock 1: 2,139,603; Supplier 1: Digi-Key; Supplier Part Number 1: 311-3.30KHRCT-ND; Resistance: 3.3kohm
footprint RESC1608X06N (Chip Resistor, 2-Leads, Body 1.60x0.80mm, IPC Medium Density)
pins: 1, 2

## RC0603FR-073KL
designator R?, comment 3k, 1%
RES SMD 3K OHM 1% 1/10W 0603; Manufacturer: Yageo; Manufacturer Part Number: RC0603FR-073KL; Power (Watts): 0.1W, 1/10W; Temperature Coefficient: ±100ppm/°C; Resistance: 3kohm; Category: Resistors; Stock 1: 1,794,253; Tolerance: ±1%; Features: Moisture Resistant; Operating Temperature: -55°C ~ 155°C; ComponentLink1URL: http://www.yageo.com/documents/recent/PYu-RC_Group_51_RoHS_L_9.pdf; ComponentLink1Description: http://www.yageo.com/documents/recent/PYu-RC_Group_51_RoHS_L_9.pdf; Supplier 1: Digi-Key; Supplier Part Number 1: P3.00KLCT-ND
footprint RESC1608X06N (Chip Resistor, 2-Leads, Body 1.60x0.80mm, IPC Medium Density)
pins: 1, 2

## RC0603FR-074K7L
designator R?, comment 4.7K 1%
RES SMD 4.7K OHM 1% 1/10W 0603; Manufacturer: Yageo; Manufacturer Part Number: RC0603FR-074K7L; Temperature Coefficient: 100ppm/°C; Resistance: 4.7kR; Voltage Rating (DC): 50V; Power Rating: 100mW; Supplier 1: Digi-Key; Category: Chip SMD Resistors; Stock 1: 3537070; Pricing 1: 1=0.10000, 10=0.02300, 100=0.00940, 1000=0.00421, 2500=0.00366 (USD); Case/Package: 0603; Min Operating Temperature: -55°C; Max Operating Temperature: 155°C; Tolerance: 1%; Voltage Rating: 50V; Height: 0.45mm; Lead Pitch: 0.3mm; ComponentLink1URL: https://datasheet.ciiva.com/15189/getdatasheetpartid-422754-15189760.pdf?src-supplier=Verical; ComponentLink1Description: https://datasheet.ciiva.com/15189/getdatasheetpartid-422754-15189760.pdf?src-supplier=Verical; Supplier Part Number 1: 311-4.70KHRDKR-ND
footprint RESC1608X06N (Chip Resistor, 2-Leads, Body 1.60x0.80mm, IPC Medium Density)
pins: 1, 2

## RC0603FR-075R1L
designator R?, comment 5.1 1%
RES SMD 5.1 OHM 1% 1/10W 0603; Manufacturer: Yageo; Manufacturer Part Number: RC0603FR-075R1L; Resistance: 5.1R; Power Rating: 100mW; Temperature Coefficient: 200ppm/°C; Voltage Rating: 50V; Supplier 1: Arrow; Category: Chip SMD Resistors; Stock 1: 2440; Pricing 1: 1=0.03400, 10=0.02360, 25=0.02330, 100=0.01200, 250=0.01190, 500=0.01110, 1000=0.00800 (USD); Case/Package: 0603; Min Operating Temperature: -55°C; Max Operating Temperature: 155°C; Tolerance: 1%; Features: Moisture Resistant; Max Power Dissipation: 100mW; Number of Terminations: 2; Height: 0.45mm; ComponentLink1URL: http://components.arrow.com/part/dataview/0323_00200983?src-supplier=Arrow+Europe; ComponentLink1Description: http://components.arrow.com/part/dataview/0323_00200983?src-supplier=Arrow+Europe; Supplier Part Number 1: RC0603FR-07 5R1L
footprint RESC1608X06N (Chip Resistor, 2-Leads, Body 1.60x0.80mm, IPC Medium Density)
pins: 1, 2

## RC0603FR-0710KL
designator R?, comment 10K 1%
RES SMD 10K OHM 1% 1/10W 0603; Manufacturer: Yageo; Manufacturer Part Number: RC0603FR-0710KL; Power (Watts): 0.1W, 1/10W; Temperature Coefficient: ±100ppm/°C; Resistance: 10kohm; Category: Resistors; Stock 1: 27,995,373; Pricing 1: 1=0.1, 10=0.015, 100=0.006, 1000=0.00268, 2500=0.00233 (USD); Tolerance: ±1%; Features: Moisture Resistant; Operating Temperature: -55°C ~ 155°C; ComponentLink1URL: http://www.yageo.com/documents/recent/PYu-RC_Group_51_RoHS_L_7.pdf; ComponentLink1Description: http://www.yageo.com/documents/recent/PYu-RC_Group_51_RoHS_L_7.pdf; Supplier 1: Digi-Key; Supplier Part Number 1: 311-10.0KHRCT-ND
footprint RESC1608X06N (Chip Resistor, 2-Leads, Body 1.60x0.80mm, IPC Medium Density)
pins: 1, 2

## RC0603FR-0710ML
designator R?, comment 10M 1%
RES SMD 10M OHM 1% 1/10W 0603; Manufacturer: Yageo; Manufacturer Part Number: RC0603FR-0710ML; Voltage Rating: 50V; Resistance: 10MR; Power Rating: 100mW; Tolerance: 5%; Temperature Coefficient: 100ppm/°C; Stock 1: 2965000; Pricing 1: 5000=0.00285, 10000=0.00248, 25000=0.00218, 50000=0.002 (USD); Case/Package: 0603; Min Operating Temperature: -55°C; Max Operating Temperature: 155°C; Voltage Rating (DC): 50V; Number of Terminations: 2; Max Power Dissipation: 100mW; Features: Moisture Resistant; Height: 0.022inch; Supplier 1: Digi-Key; Supplier Part Number 1: 311-10.0MHRCT-ND
footprint RESC1608X06N (Chip Resistor, 2-Leads, Body 1.60x0.80mm, IPC Medium Density)
pins: 1, 2

## RC0603FR-0710RL
designator R?, comment 10, 1%
RES SMD 10 OHM 1% 1/10W 0603; Manufacturer: Yageo; Manufacturer Part Number: RC0603FR-0710RL; Power (Watts): 0.1W, 1/10W; Temperature Coefficient: ±200ppm/°C; Resistance: 10ohms; Supplier 1: Digi-Key; Category: Resistors; Stock 1: 4452389; Pricing 1: 1=0.1, 10=0.015, 100=0.006, 1000=0.00268, 2500=0.00233 (USD); Tolerance: ±1%; Features: Moisture Resistant; Operating Temperature: -55°C ~ 155°C; ComponentLink1URL: http://www.yageo.com/documents/recent/PYu-RC_Group_51_RoHS_L_8.pdf; ComponentLink1Description: http://www.yageo.com/documents/recent/PYu-RC_Group_51_RoHS_L_8.pdf; Supplier Part Number 1: 311-10.0HRCT-ND
footprint RESC1608X06N (Chip Resistor, 2-Leads, Body 1.60x0.80mm, IPC Medium Density)
pins: 1, 2

## RC0603FR-0711K8L
designator R?, comment 11.8K 1%
RES SMD 11.8K OHM 1% 1/10W 0603; Manufacturer: Yageo; Manufacturer Part Number: RC0603FR-0711K8L; Temperature Coefficient: 100ppm/°C; Voltage Rating (DC): 50V; Resistance: 11.8kR; Power Rating: 100mW; Supplier 1: Digi-Key; Category: Chip SMD Resistors; Stock 1: 385078; Pricing 1: 1=0.10000, 10=0.02300, 100=0.00940, 1000=0.00421, 2500=0.00366 (USD); Case/Package: 0603; Min Operating Temperature: -55°C; Max Operating Temperature: 155°C; Tolerance: 1%; Voltage Rating: 50V; ComponentLink1URL: http://www.mouser.com/ds/2/447/RC0603-272842.pdf?src-supplier=Mouser; ComponentLink1Description: http://www.mouser.com/ds/2/447/RC0603-272842.pdf?src-supplier=Mouser; Supplier Part Number 1: 311-11.8KHRCT-ND
footprint RESC1608X06N (Chip Resistor, 2-Leads, Body 1.60x0.80mm, IPC Medium Density)
pins: 1, 2

## RC0603FR-0720KL
designator R?, comment 20K 1%
RES SMD 20K OHM 1% 1/10W 0603; Manufacturer: Yageo; Manufacturer Part Number: RC0603FR-0720KL; Power (Watts): 0.1W, 1/10W; Temperature Coefficient: ±100ppm/°C; Resistance: 20kohm; Category: Resistors; Stock 1: 4,317,543; Tolerance: ±1%; Features: Moisture Resistant; Operating Temperature: -55°C ~ 155°C; ComponentLink1URL: http://www.yageo.com/documents/recent/PYu-RC_Group_51_RoHS_L_7.pdf; ComponentLink1Description: http://www.yageo.com/documents/recent/PYu-RC_Group_51_RoHS_L_7.pdf; Supplier 1: Digi-Key; Supplier Part Number 1: 311-20.0KHRCT-ND
footprint RESC1608X06N (Chip Resistor, 2-Leads, Body 1.60x0.80mm, IPC Medium Density)
pins: 1, 2

## RC0603FR-0722KL
designator R?, comment 22K 1%
RES SMD 22K OHM 1% 1/10W 0603; Manufacturer: Yageo; Manufacturer Part Number: RC0603FR-0722KL; Power (Watts): 0.1W, 1/10W; Temperature Coefficient: ±100ppm/°C; Resistance: 22kohm; Supplier 1: Digi-Key; Category: Resistors; Stock 1: 1522212; Pricing 1: 1=0.1, 10=0.015, 100=0.006, 1000=0.00268, 2500=0.00233 (USD); Tolerance: ±1%; Features: Moisture Resistant; Operating Temperature: -55°C ~ 155°C; ComponentLink1URL: http://www.yageo.com/documents/recent/PYu-RC_Group_51_RoHS_L_7.pdf; ComponentLink1Description: http://www.yageo.com/documents/recent/PYu-RC_Group_51_RoHS_L_7.pdf; Supplier Part Number 1: 311-22.0KHRCT-ND
footprint RESC1608X06N (Chip Resistor, 2-Leads, Body 1.60x0.80mm, IPC Medium Density)
pins: 1, 2

## RC0603FR-0730K1L
designator R?, comment 30.1K 1%
RES SMD 30.1K OHM 1% 1/10W 0603; Manufacturer: Yageo; Manufacturer Part Number: RC0603FR-0730K1L; Resistance: 30.1kR; Temperature Coefficient: 100ppm/°C; Voltage Rating (DC): 50V; Power Rating: 100mW; Working Voltage: 75V; Supplier 1: Digi-Key; Category: Chip SMD Resistors; Stock 1: 765201; Pricing 1: 1=0.10000, 10=0.02300, 100=0.00940, 1000=0.00421, 2500=0.00366 (USD); Case/Package: 0603; Min Operating Temperature: -55°C; Max Operating Temperature: 155°C; Tolerance: 1%; Voltage Rating: 50V; Number of Terminations: 2; Height: 0.45mm; ComponentLink1URL: https://datasheet.ciiva.com/11808/0900766b80f96399-11808101.pdf?src-supplier=RSComponents; ComponentLink1Description: https://datasheet.ciiva.com/11808/0900766b80f96399-11808101.pdf?src-supplier=RSComponents; Supplier Part Number 1: 311-30.1KHRCT-ND
footprint RESC1608X06N (Chip Resistor, 2-Leads, Body 1.60x0.80mm, IPC Medium Density)
pins: 1, 2

## RC0603FR-0733K2L
designator R?, comment 33.2K 1%
RES SMD 33.2K OHM 1% 1/10W 0603; Manufacturer: Yageo; Manufacturer Part Number: RC0603FR-0733K2L; Resistance: 33.2kR; Temperature Coefficient: 100ppm/°C; Voltage Rating (DC): 50V; Power Rating: 100mW; Stock 1: 942253; Pricing 1: 1=0.1, 10=0.009, 50=0.009, 100=0.003, 1000=0.003, 10000=0.002 (USD); Case/Package: 0603; Min Operating Temperature: -55°C; Max Operating Temperature: 155°C; Tolerance: 1%; Voltage Rating: 50V; Number of Terminations: 2; Max Power Dissipation: 100mW; Height: 0.022inch; Supplier 1: Digi-Key; Supplier Part Number 1: 311-33.2KHRCT-ND
footprint RESC1608X06N (Chip Resistor, 2-Leads, Body 1.60x0.80mm, IPC Medium Density)
pins: 1, 2

## RC0603FR-0745K3L
designator R?, comment 45.3K 1%
RES SMD 45.3K OHM 1% 1/10W 0603; Manufacturer: Yageo; Manufacturer Part Number: RC0603FR-0745K3L; Resistance: 45.3kR; Power Rating: 100mW; Voltage Rating: 50V; Temperature Coefficient: 100ppm/°C; Supplier 1: Digi-Key; Category: Chip SMD Resistors; Stock 1: 319636; Pricing 1: 1=0.10000, 10=0.02300, 100=0.00940, 1000=0.00421, 2500=0.00366 (USD); Case/Package: 0603; Min Operating Temperature: -55°C; Max Operating Temperature: 155°C; Tolerance: 1%; Number of Terminations: 2; Max Power Dissipation: 100mW; Voltage Rating (DC): 50V; Features: Moisture Resistant; Height: 0.022inch; ComponentLink1URL: https://datasheet.ciiva.com/15189/getdatasheetpartid-251849-15189734.pdf?src-supplier=Verical; ComponentLink1Description: https://datasheet.ciiva.com/15189/getdatasheetpartid-251849-15189734.pdf?src-supplier=Verical; Supplier Part Number 1: 311-45.3KHRCT-ND
footprint RESC1608X06N (Chip Resistor, 2-Leads, Body 1.60x0.80mm, IPC Medium Density)
pins: 1, 2

## RC0603FR-0747KL
designator R?, comment 47K 1%
RES SMD 47K OHM 1% 1/10W 0603; Manufacturer: Yageo; Manufacturer Part Number: RC0603FR-0747KL; Resistance: 47kR; Temperature Coefficient: 100ppm/°C; Voltage Rating (DC): 50V; Power Rating: 100mW; Supplier 1: Mouser; Supplier Part Number 1: 603-RC0603FR-0747KL; Stock 1: 942253; Pricing 1: 1=0.1, 10=0.009, 50=0.009, 100=0.003, 1000=0.003, 10000=0.002 (USD); Case/Package: 0603; Min Operating Temperature: -55°C; Max Operating Temperature: 155°C; Tolerance: 1%; Voltage Rating: 50V; Number of Terminations: 2; Max Power Dissipation: 100mW; Height: 0.022inch; ComponentLink1URL: https://datasheet.ciiva.com/11808/0900766b80f96399-11808118.pdf; ComponentLink1Description: https://datasheet.ciiva.com/11808/0900766b80f96399-11808118.pdf
footprint RESC1608X06N (Chip Resistor, 2-Leads, Body 1.60x0.80mm, IPC Medium Density)
pins: 1, 2

## RC0603FR-0747RL
designator R?, comment 47 Ohm, 5%
RES SMD 47 OHM 1% 1/10W 0603; Manufacturer: Yageo; Manufacturer Part Number: RC0603FR-0747RL; Voltage Rating (DC): 50V; Resistance: 47R; Power Rating: 100mW; Temperature Coefficient: 100ppm/°C; Category: Chip SMD Resistors; Stock 1: 880,987; Pricing 1: 1=0.10000, 10=0.01900, 100=0.00770, 1000=0.00347, 2500=0.00301 (USD); Case/Package: 0603; Min Operating Temperature: -55°C; Max Operating Temperature: 155°C; Tolerance: 5%; Supplier 1: Digi-Key; Supplier Part Number 1: 311-47.0HRCT-ND; Load: *
footprint RESC1608X06N (Chip Resistor, 2-Leads, Body 1.60x0.80mm, IPC Medium Density)
pins: 1, 2

## RC0603FR-0754K9L
designator R?, comment 54.9K 1%
RES SMD 54.9K OHM 1% 1/10W 0603; Manufacturer: Yageo; Manufacturer Part Number: RC0603FR-0754K9L; Resistance: 54.9kR; Temperature Coefficient: 100ppm/°C; Voltage Rating (DC): 50V; Power Rating: 100mW; Stock 1: 942253; Pricing 1: 1=0.1, 10=0.009, 50=0.009, 100=0.003, 1000=0.003, 10000=0.002 (USD); Case/Package: 0603; Min Operating Temperature: -55°C; Max Operating Temperature: 155°C; Tolerance: 1%; Voltage Rating: 50V; Number of Terminations: 2; Max Power Dissipation: 100mW; Height: 0.022inch; Supplier 1: Digi-Key; Supplier Part Number 1: 311-54.9KHRCT-ND
footprint RESC1608X06N (Chip Resistor, 2-Leads, Body 1.60x0.80mm, IPC Medium Density)
pins: 1, 2

## RC0603FR-07100KL
designator R?, comment 100K 1%
RES SMD 100K OHM 1% 1/10W 0603; Manufacturer: Yageo; Manufacturer Part Number: RC0603FR-07100KL; Power (Watts): 0.1W, 1/10W; Temperature Coefficient: ±100ppm/°C; Resistance: 100kohms; Category: Resistors; Stock 1: 23,561,958; Tolerance: ±1%; Features: Moisture Resistant; Operating Temperature: -55°C ~ 155°C; ComponentLink1URL: http://www.yageo.com/documents/recent/PYu-RC_Group_51_RoHS_L_7.pdf; ComponentLink1Description: http://www.yageo.com/documents/recent/PYu-RC_Group_51_RoHS_L_7.pdf; Supplier 1: Digi-Key; Supplier Part Number 1: 311-100KHRCT-ND
footprint RESC1608X06N (Chip Resistor, 2-Leads, Body 1.60x0.80mm, IPC Medium Density)
pins: 1, 2

## RC0603FR-07100RL
designator R?, comment 100 1%
RES SMD 100 OHM 1% 1/10W 0603; Manufacturer: Yageo; Manufacturer Part Number: RC0603FR-07100RL; Power (Watts): 0.1W, 1/10W; Temperature Coefficient: ±100ppm/°C; Resistance: 100ohms; Supplier 1: Digi-Key; Category: Resistors; Stock 1: 6302706; Pricing 1: 1=0.1, 10=0.015, 100=0.006, 1000=0.00268, 2500=0.00233 (USD); Tolerance: ±1%; Features: Moisture Resistant; Operating Temperature: -55°C ~ 155°C; ComponentLink1URL: http://www.yageo.com/documents/recent/PYu-RC_Group_51_RoHS_L_7.pdf; ComponentLink1Description: http://www.yageo.com/documents/recent/PYu-RC_Group_51_RoHS_L_7.pdf; Supplier Part Number 1: 311-100HRCT-ND
footprint RESC1608X06N (Chip Resistor, 2-Leads, Body 1.60x0.80mm, IPC Medium Density)
pins: 1, 2

## RC0603FR-07120KL
designator R?, comment 120K 1%
RES SMD 120K OHM 1% 1/10W 0603; Manufacturer: Yageo; Manufacturer Part Number: RC0603FR-07120KL; Resistance: 120kR; Power Rating: 100mW; Voltage Rating: 50V; Temperature Coefficient: 100ppm/°C; Working Voltage: 75V; Supplier 1: Digi-Key; Category: Chip SMD Resistors; Stock 1: 1126729; Pricing 1: 1=0.10000, 10=0.02300, 100=0.00940, 1000=0.00421, 2500=0.00366 (USD); Case/Package: 0603; Min Operating Temperature: -55°C; Max Operating Temperature: 155°C; Tolerance: 1%; Voltage Rating (DC): 50V; Features: Moisture Resistant; Max Power Dissipation: 100mW; Number of Terminations: 2; Height: 0.022inch; ComponentLink1URL: https://datasheet.ciiva.com/11808/0900766b80f96399-11808757.pdf?src-supplier=RSComponents; ComponentLink1Description: https://datasheet.ciiva.com/11808/0900766b80f96399-11808757.pdf?src-supplier=RSComponents; Supplier Part Number 1: 311-120KHRCT-ND
footprint RESC1608X06N (Chip Resistor, 2-Leads, Body 1.60x0.80mm, IPC Medium Density)
pins: 1, 2

## RC0603FR-07150KL
designator R?, comment 150K 1%
RES SMD 150K OHM 1% 1/10W 0603; Manufacturer: Yageo; Manufacturer Part Number: RC0603FR-07150KL; Resistance: 150kR; Temperature Coefficient: 100ppm/°C; Voltage Rating (DC): 50V; Power Rating: 100mW; ComponentLink1URL: http://www.yageo.com/documents/recent/PYu-RC_Group_51_RoHS_L_7.pdf; ComponentLink1Description: http://www.yageo.com/documents/recent/PYu-RC_Group_51_RoHS_L_7.pdf; Supplier 1: Digi-Key; Supplier Part Number 1: 311-150KHRDKR-ND; Stock 1: 0; Pricing 1: 1=0.1, 10=0.015, 100=0.006, 1000=0.00268, 2500=0.00233 (USD); Case/Package: 0603; Min Operating Temperature: -55°C; Max Operating Temperature: 155°C; Tolerance: 1%; Voltage Rating: 50V; Number of Terminations: 2; Max Power Dissipation: 100mW; Height: 0.022inch
footprint RESC1608X06N (Chip Resistor, 2-Leads, Body 1.60x0.80mm, IPC Medium Density)
pins: 1, 2

## RC0603FR-07180RL
designator R?, comment 180 1%
RES SMD 180 OHM 1% 1/10W 0603; Manufacturer: Yageo; Manufacturer Part Number: RC0603FR-07180RL; Power (Watts): 0.1W, 1/10W; Temperature Coefficient: ±100ppm/°C; Resistance: 180ohms; Category: Resistors; Stock 1: 794,398; Tolerance: ±1%; Features: Moisture Resistant; Operating Temperature: -55°C ~ 155°C; Supplier 1: Digi-Key; Supplier Part Number 1: 311-180HRCT-ND
footprint RESC1608X06N (Chip Resistor, 2-Leads, Body 1.60x0.80mm, IPC Medium Density)
pins: 1, 2

## RC0603FR-07240RL
designator R?, comment 240 1%
RES SMD 240 OHM 1% 1/10W 0603; Manufacturer: Yageo; Manufacturer Part Number: RC0603FR-07240RL; Temperature Coefficient: 100ppm/°C; Resistance: 240R; Voltage Rating (DC): 50V; Working Voltage: 75V; Power Rating: 100mW; Supplier 1: Digi-Key; Category: Chip SMD Resistors; Stock 1: 1384191; Pricing 1: 1=0.10000, 10=0.02300, 100=0.00940, 1000=0.00421, 2500=0.00366 (USD); Case/Package: 0603; Min Operating Temperature: -55°C; Max Operating Temperature: 155°C; Tolerance: 1%; Number of Terminations: 2; Voltage Rating: 50V; Max Power Dissipation: 100mW; Features: Moisture Resistant; Height: 0.022inch; ComponentLink1URL: https://datasheet.ciiva.com/2508/pyu-r-int-thick-7-2508497.pdf?src-supplier=Digi-Key; ComponentLink1Description: https://datasheet.ciiva.com/2508/pyu-r-int-thick-7-2508497.pdf?src-supplier=Digi-Key; Supplier Part Number 1: 311-240HRCT-ND
footprint RESC1608X06N (Chip Resistor, 2-Leads, Body 1.60x0.80mm, IPC Medium Density)
pins: 1, 2

## RC0603FR-07330RL
designator R?, comment 330 1%
RES SMD 330 OHM 1% 1/10W 0603; Manufacturer: Yageo; Manufacturer Part Number: RC0603FR-07330RL; Power (Watts): 0.1W, 1/10W; Temperature Coefficient: ±100ppm/°C; Resistance: 330ohm; Category: Resistors; Tolerance: ±1%; Features: Moisture Resistant; Operating Temperature: -55°C ~ 155°C; Stock 1: 4,000,731; Supplier 1: Digi-Key; Supplier Part Number 1: 311-330HRCT-ND
footprint RESC1608X06N (Chip Resistor, 2-Leads, Body 1.60x0.80mm, IPC Medium Density)
pins: 1, 2

## RC0603FR-07390RL
designator R?, comment 390 1%
RES SMD 390 OHM 1% 1/10W 0603; Manufacturer: Yageo; Manufacturer Part Number: RC0603FR-07390RL; Power Rating: 100mW; Voltage Rating: 50V; Temperature Coefficient: 100ppm/°C; Working Voltage: 75V; Resistance: 390R; Supplier 1: Digi-Key; Category: Chip SMD Resistors; Stock 1: 1928728; Pricing 1: 1=0.10000, 10=0.02300, 100=0.00940, 1000=0.00421, 2500=0.00366 (USD); Case/Package: 0603; Min Operating Temperature: -55°C; Max Operating Temperature: 155°C; Voltage Rating (DC): 50V; Features: Moisture Resistant; Max Power Dissipation: 100mW; Number of Terminations: 2; Tolerance: 1%; Height: 0.022inch; ComponentLink1URL: https://datasheet.ciiva.com/2454/pyu-r-int-thick-7-2454678.pdf?src-supplier=Digi-Key; ComponentLink1Description: https://datasheet.ciiva.com/2454/pyu-r-int-thick-7-2454678.pdf?src-supplier=Digi-Key; Supplier Part Number 1: 311-390HRCT-ND
footprint RESC1608X06N (Chip Resistor, 2-Leads, Body 1.60x0.80mm, IPC Medium Density)
pins: 1, 2